# EAGLE library part OV7725_FLAT-FLEXIBLE-CONNECTOR (library Chao)
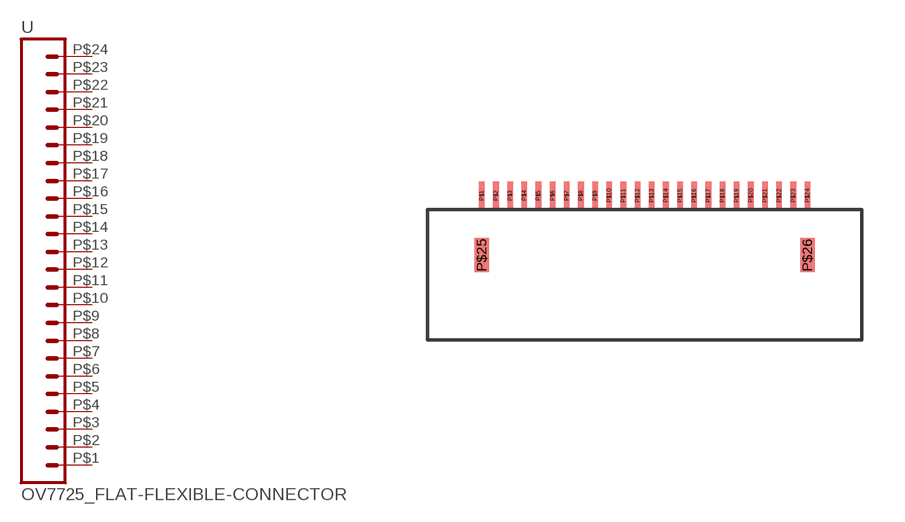
[diagram p10: symbol with the pads of FFC_FH12A-24S-0.5SH; footprint FFC_FH12A-24S-0.5SH]

Designator prefix -

## OV7725_FLAT-FLEXIBLE-CONNECTOR  [FFC_FH12A-24S-0.5SH]
P$1  1  pas
P$2  2  pas
P$3  3  pas
P$4  4  pas
P$5  5  pas
P$6  6  pas
P$7  7  pas
P$8  8  pas
P$9  9  pas
P$10  10  pas
P$11  11  pas
P$12  12  pas
P$13  13  pas
P$14  14  pas
P$15  15  pas
P$16  16  pas
P$17  17  pas
P$18  18  pas
P$19  19  pas
P$20  20  pas
P$21  21  pas
P$22  22  pas
P$23  23  pas
P$24  24  pas

## Footprint FFC_FH12A-24S-0.5SH (pad centres in mm)
smd 0.2 x 1: P$1 -5.75,0.1; P$2 -5.25,0.1; P$3 -4.75,0.1; P$4 -4.25,0.1; P$5 -3.75,0.1; P$6 -3.25,0.1; P$7 -2.75,0.1; P$8 -2.25,0.1; P$9 -1.75,0.1; P$10 -1.25,0.1; P$11 -0.75,0.1; P$12 -0.25,0.1; P$13 0.25,0.1; P$14 0.75,0.1; P$15 1.25,0.1; P$16 1.75,0.1; P$17 2.25,0.1; P$18 2.75,0.1; P$19 3.25,0.1; P$20 3.75,0.1; P$21 4.25,0.1; P$22 4.75,0.1; P$23 5.25,0.1; P$24 5.75,0.1
smd 0.5 x 1.2: P$25 -5.75,-2; P$26 5.75,-2